# EAGLE library part LED-RGB-INDV (library Others)
SMD RGB LED (Individual)
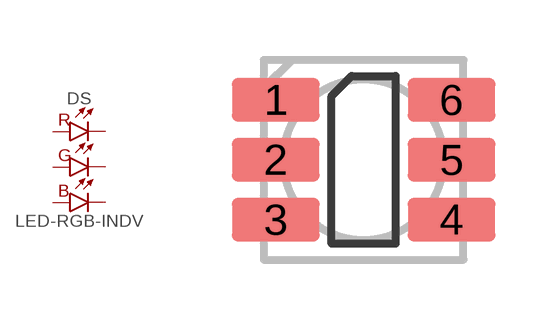
[diagram p5: symbol with the pads of LED-5050-INDV; footprint LED-5050-INDV]

Designator prefix DS

## LED-RGB-INDV_SINGLE-CW (CYTRON-PC: S-DS-CW-5050-INDV; DESC: S Cool White LED 5050-INDV; VALUE: Cool White)  [LED-5050-INDV]
1  RA
2  GA
3  BA
4  BC
5  GC
6  RC

## Footprint LED-5050-INDV (pad centres in mm)
SMD RGB LED (Individual) Size: 5.0mm x 5.0mm Created by: Wai Weng
smd 2.2 x 1.1: 1 -2.2,1.5; 2 -2.2,0; 3 -2.2,-1.5; 4 2.2,-1.5; 5 2.2,0; 6 2.2,1.5